# Altium schematic symbol library TC358743XBG.SchLib: 1 symbol
Pins are listed as number, name and electrical type; pins without a type are passive.

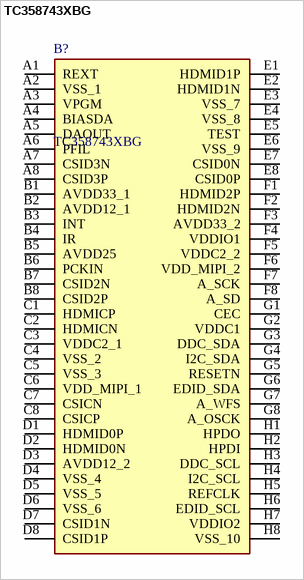
[diagram p0: symbol TC358743XBG]

## TC358743XBG
designator B?
Display Drivers & Controllers HDMI to CSI-2 bridge chip; Manufacturer_Name: Toshiba; Geometry.Height: 1.2mm; IC Components Part Number: *; IC Components Price/Stock: *; Manufacturer_Part_Number: TC358743XBG; Datasheet Link: https://toshiba.semicon-storage.com/info/docget.jsp?did=35655&prodName=TC358743XBG
footprint BGA64C65P8X8_600X600X120
pins: A1 REXT, A2 VSS_1, A3 VPGM, A4 BIASDA, A5 DAOUT, A6 PFIL, A7 CSID3N, A8 CSID3P, B1 AVDD33_1, B2 AVDD12_1, B3 INT, B4 IR, B5 AVDD25, B6 PCKIN, B7 CSID2N, B8 CSID2P, C1 HDMICP, C2 HDMICN, C3 VDDC2_1, C4 VSS_2, C5 VSS_3, C6 VDD_MIPI_1, C7 CSICN, C8 CSICP, D1 HDMID0P, D2 HDMID0N, D3 AVDD12_2, D4 VSS_4, D5 VSS_5, D6 VSS_6, D7 CSID1N, D8 CSID1P, E1 HDMID1P, E2 HDMID1N, E3 VSS_7, E4 VSS_8, E5 TEST, E6 VSS_9, E7 CSID0N, E8 CSID0P, F1 HDMID2P, F2 HDMID2N, F3 AVDD33_2, F4 VDDIO1, F5 VDDC2_2, F6 VDD_MIPI_2, F7 A_SCK, F8 A_SD, G1 CEC, G2 VDDC1, G3 DDC_SDA, G4 I2C_SDA, G5 RESETN, G6 EDID_SDA, G7 A_WFS, G8 A_OSCK, H1 HPDO, H2 HPDI, H3 DDC_SCL, H4 I2C_SCL, H5 REFCLK, H6 EDID_SCL, H7 VDDIO2, H8 VSS_10